# Altium schematic symbol library Sonar_Library.SchLib: 17 symbols
Pins are listed as number, name and electrical type; pins without a type are passive.

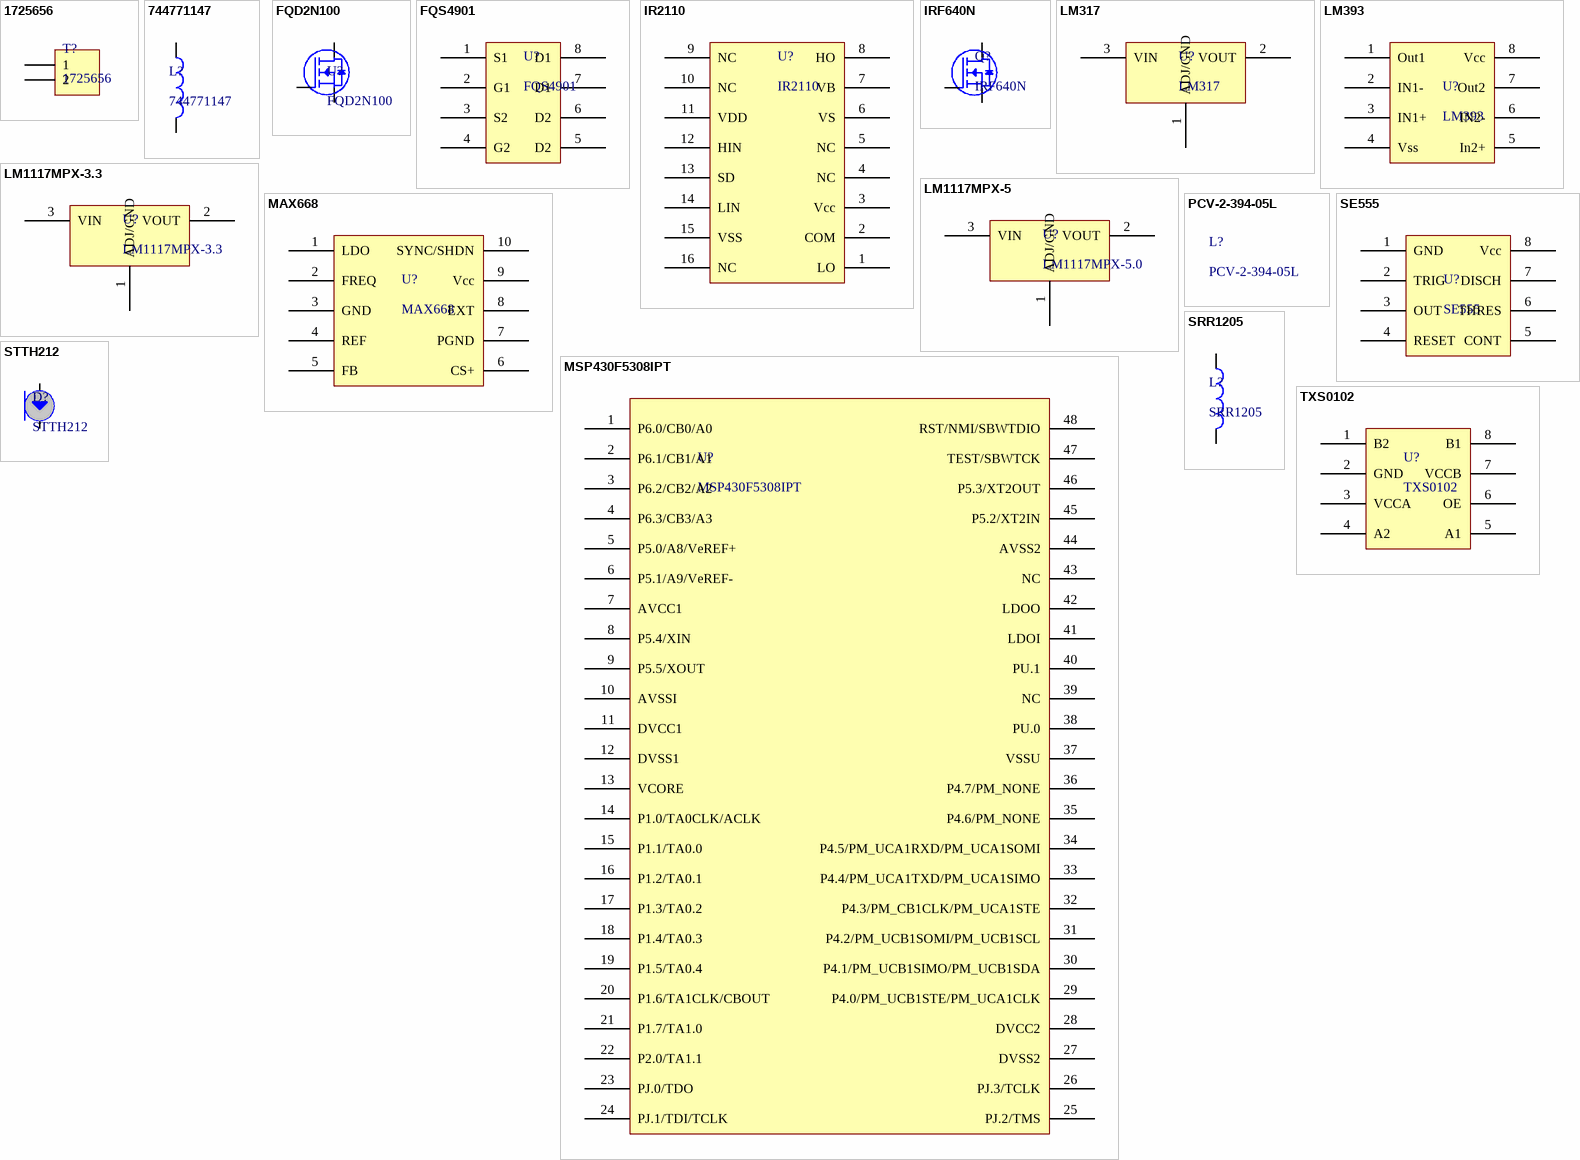
[diagram p0: symbols 1725656 to TXS0102]

## 1725656
designator T?
CONN TERM BLOCK 2.54MM 2POS; Supplier 1: Digi-Key; Supplier Part Number 1: 277-1273-ND
footprint 1725656
pins: 1, 2

## 744771147
designator L?
FIXED IND 47UH 2.21A 75 MOHM SMD; Supplier 1: Digi-Key; Supplier Part Number 1: 732-1214-1-ND
footprint 744771147
pins: 1 A, 2 B

## FQD2N100
designator U?
MOSFET N-CH 1000V 1.6A DPAK; Supplier 1: Digi-Key; Supplier Part Number 1: FQD2N100TMCT-ND
footprint FQD2N100 (D-PAK, 3-Pads, Body 6.21x6.73mm (max), IPC Medium Density)
pins: D, G, S

## FQS4901
designator U?
MOSFET 2N-CH 400V 0.45A 8SOP; Supplier 1: Digi-Key; Supplier Part Number 1: FQS4901TFCT-ND
footprint FQS4901 (SOP, 8-Leads, Body 4.92x3.95mm, Pitch 1.27mm, IPC Medium Density)
pins: 1 S1, 2 G1, 3 S2, 4 G2, 5 D2, 6 D2, 7 D1, 8 D1

## IR2110
designator U?
IC DRIVER HIGH/LOW SIDE 16SOIC; Supplier 1: Digi-Key; Supplier Part Number 1: IR2110SPBFCT-ND
footprint IR2110 (SOIC, 16-Leads, Body 10.30x7.50mm, Pitch 1.27mm, IPC Medium Density)
pins: 1 LO, 2 COM, 3 Vcc, 4 NC, 5 NC, 6 VS, 7 VB, 8 HO, 9 NC, 10 NC, 11 VDD, 12 HIN, 13 SD, 14 LIN, 15 VSS, 16 NC

## IRF640N
designator Q?
MOSFET N-CH 200V 18A D2PAK; Supplier 1: Digi-Key; Supplier Part Number 1: IRF640NSTRLPBFCT-ND
footprint IRF640N (D2-PAK, 3-Pads, Body 7.93x8.69mm (max), IPC Medium Density)
pins: D, G, S

## LM317
designator U?
IC REG LDO ADJ 1.5A SOT223; Supplier 1: Digi-Key; Supplier Part Number 1: 296-12602-1-ND
footprint LM317 (SOT223, 4-Leads, Body 6.50x7.00mm (avg), Pitch 2.30mm, IPC Medium Density)
pins: 1 ADJ/GND, 2 VOUT, 3 VIN

## LM393
designator U?
IC VOLT COMPARATOR DUAL 8MISOIC; Supplier 1: Digi-Key; Supplier Part Number 1: 497-7334-1-ND
footprint LM393 (TSOP, 8-Leads, Body 3.00x2.95mm, Pitch 0.65mm, IPC Medium Density)
pins: 1 Out1, 2 IN1-, 3 IN1+, 4 Vss, 5 In2+, 6 IN2-, 7 Out2, 8 Vcc

## LM1117MPX-3.3
designator U?
IC REG LDO 3.3V 0.8A SOT223; Supplier 1: Digi-Key; Supplier Part Number 1: LM1117MPX-3.3/NOPBCT-ND
footprint LM1117MPX (SOT223, 4-Leads, Body 6.50x7.00mm (avg), Pitch 2.30mm, IPC Medium Density)
pins: 1 ADJ/GND, 2 VOUT, 3 VIN

## LM1117MPX-5
designator U?, comment LM1117MPX-5.0
IC REG LDO 5V 0.8A SOT223; Supplier 1: Digi-Key; Supplier Part Number 1: LM1117MPX-5.0/NOPBCT-ND
footprint LM1117MPX (SOT223, 4-Leads, Body 6.50x7.00mm (avg), Pitch 2.30mm, IPC Medium Density)
pins: 1 ADJ/GND, 2 VOUT, 3 VIN

## MAX668
designator U?
IC REG CTRLR PWM HYBRID 10-UMAX; Supplier 1: Digi-Key; Supplier Part Number 1: MAX668EUB+TCT-ND
footprint MAX668 (TSSOP, 10-Leads, Body 3.00x3.00mm, Pitch 0.50mm, IPC Medium Density)
pins: 1 LDO, 2 FREQ, 3 GND, 4 REF, 5 FB, 6 CS+, 7 PGND, 8 EXT, 9 Vcc, 10 SYNC/SHDN

## MSP430F5308IPT
designator U?
IC MCU 16BIT 16KB FLASH 48LQFP; Supplier 1: Digi-Key; Supplier Part Number 1: 296-28544-ND
footprint MSP430F5308IPT (TSQFP, 48-Leads, Body 7.00x7.00mm, Pitch 0.50mm, IPC Medium Density)
pins: 1 P6.0/CB0/A0, 2 P6.1/CB1/A1, 3 P6.2/CB2/A2, 4 P6.3/CB3/A3, 5 P5.0/A8/VeREF+, 6 P5.1/A9/VeREF-, 7 AVCC1, 8 P5.4/XIN, 9 P5.5/XOUT, 10 AVSSI, 11 DVCC1, 12 DVSS1, 13 VCORE, 14 P1.0/TA0CLK/ACLK, 15 P1.1/TA0.0, 16 P1.2/TA0.1, 17 P1.3/TA0.2, 18 P1.4/TA0.3, 19 P1.5/TA0.4, 20 P1.6/TA1CLK/CBOUT, 21 P1.7/TA1.0, 22 P2.0/TA1.1, 23 PJ.0/TDO, 24 PJ.1/TDI/TCLK, 25 PJ.2/TMS, 26 PJ.3/TCLK, 27 DVSS2, 28 DVCC2, 29 P4.0/PM_UCB1STE/PM_UCA1CLK, 30 P4.1/PM_UCB1SIMO/PM_UCB1SDA, 31 P4.2/PM_UCB1SOMI/PM_UCB1SCL, 32 P4.3/PM_CB1CLK/PM_UCA1STE, 33 P4.4/PM_UCA1TXD/PM_UCA1SIMO, 34 P4.5/PM_UCA1RXD/PM_UCA1SOMI, 35 P4.6/PM_NONE, 36 P4.7/PM_NONE, 37 VSSU, 38 PU.0, 39 NC, 40 PU.1, 41 LDOI, 42 LDOO, 43 NC, 44 AVSS2, 45 P5.2/XT2IN, 46 P5.3/XT2OUT, 47 TEST/SBWTCK, 48 RST/NMI/SBWTDIO

## PCV-2-394-05L
designator L?
47uH Vertical Mount Power Choke; Supplier 1: Coilcraft; Supplier Part Number 1: PCV-2-394-05L

## SE555
designator U?
IC OSC SGL TIMER 100KHZ 8SOIC; Supplier 1: Digi-Key; Supplier Part Number 1: 296-41385-1-ND
footprint SE555 (SOP, 8-Leads, Body 4.90x3.90mm, Pitch 1.27mm, IPC Medium Density)
pins: 1 GND, 2 TRIG, 3 OUT, 4 RESET, 5 CONT, 6 THRES, 7 DISCH, 8 Vcc

## SRR1205
designator L?
FIXED IND 3MH 500MA 3.5 OHM SMD; Supplier 1: Digi-Key; Supplier Part Number 1: SRR1205-101KLCT-ND
footprint SRR1205
pins: 1 A, 2 B

## STTH212
designator D?
DIODE GEN PURP 1.2KV 2A SMB; Supplier 1: Digi-Key; Supplier Number 1: 497-5762-1-ND
footprint STTH212
pins: A, C

## TXS0102
designator U?
IC VOLT-LEVEL TRANSLATOR US8; Supplier 1: Digi-Key; Supplier Part Number 1: 296-21931-1-ND
footprint TXS012 (TSOP, 8-Leads, Body 2.95x2.80mm, Pitch 0.65mm, IPC Medium Density)
pins: 1 B2, 2 GND, 3 VCCA, 4 A2, 5 A1, 6 OE, 7 VCCB, 8 B1